# EAGLE library part SN74LVC2G241DCUT (library parts)
DUAL BUFFER/DRIVER WITH 3-STATE OUTPUTS
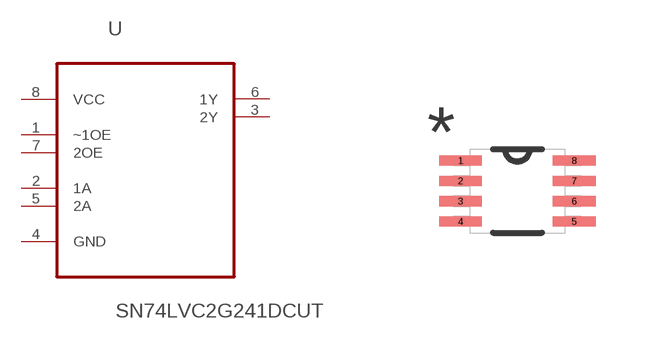
[diagram p0: symbol with the pads of SOP50P310X90-8N; footprint SOP50P310X90-8N]

Designator prefix U

## SN74LVC2G241DCUT (MPN: SN74LVC2G241DCUT; OC_FARNELL: 1601175; OC_NEWARK: 13N4852; PACKAGE: SOP-8; SUPPLIER: Texas Instruments)  [SOP50P310X90-8N]
1  ~1OE  in
2  1A  in
3  2Y  out
4  GND  pas
5  2A  in
6  1Y  out
7  2OE  in
8  VCC  pwr

## Footprint SOP50P310X90-8N (pad centres in mm)
smd 1.067 x 0.254: 1 -1.422,0.762; 2 -1.422,0.254; 3 -1.422,-0.254; 4 -1.422,-0.762; 5 1.422,-0.762; 6 1.422,-0.254; 7 1.422,0.254; 8 1.422,0.762